# EAGLE library part EP4CE22E22C (library crasbe)
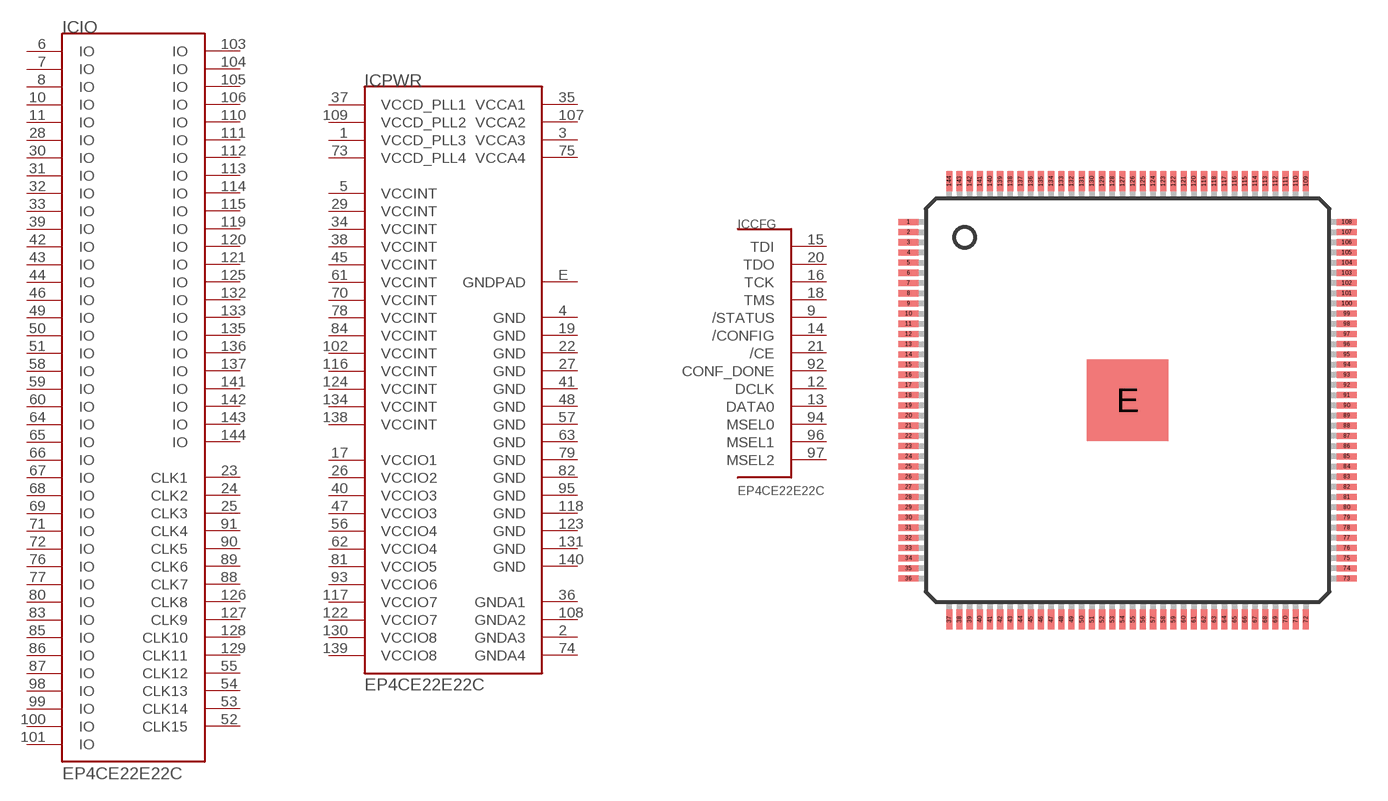
[diagram p20: symbol with the pads of EQFP-144; footprint EQFP-144]

Designator prefix IC; gates CFG=EP4CE22_CFG IO=EP4CE22_IO PWR=EP4CE22_PWR

## EP4CE22E22C  [EQFP-144]
1  PWR:VCCD_PLL3  pwr
2  PWR:GNDA3  pwr
3  PWR:VCCA3  pwr
4  PWR:GND  pwr
5  PWR:VCCINT  pwr
6  IO:IO
7  IO:IO
8  IO:IO
9  CFG:/STATUS
10  IO:IO
11  IO:IO
12  CFG:DCLK  in
13  CFG:DATA0  in
14  CFG:/CONFIG  in
15  CFG:TDI  in
16  CFG:TCK  in
17  PWR:VCCIO1  pwr
18  CFG:TMS  in
19  PWR:GND  pwr
20  CFG:TDO  out
21  CFG:/CE  in
22  PWR:GND  pwr
23  IO:CLK1
24  IO:CLK2
25  IO:CLK3
26  PWR:VCCIO2  pwr
27  PWR:GND  pwr
28  IO:IO
29  PWR:VCCINT  pwr
30  IO:IO
31  IO:IO
32  IO:IO
33  IO:IO
34  PWR:VCCINT  pwr
35  PWR:VCCA1  pwr
36  PWR:GNDA1  pwr
37  PWR:VCCD_PLL1  pwr
38  PWR:VCCINT  pwr
39  IO:IO
40  PWR:VCCIO3  pwr
41  PWR:GND  pwr
42  IO:IO
43  IO:IO
44  IO:IO
45  PWR:VCCINT  pwr
46  IO:IO
47  PWR:VCCIO3  pwr
48  PWR:GND  pwr
49  IO:IO
50  IO:IO
51  IO:IO
52  IO:CLK15
53  IO:CLK14
54  IO:CLK13
55  IO:CLK12
56  PWR:VCCIO4  pwr
57  PWR:GND  pwr
58  IO:IO
59  IO:IO
60  IO:IO
61  PWR:VCCINT  pwr
62  PWR:VCCIO4  pwr
63  PWR:GND  pwr
64  IO:IO
65  IO:IO
66  IO:IO
67  IO:IO
68  IO:IO
69  IO:IO
70  PWR:VCCINT  pwr
71  IO:IO
72  IO:IO
73  PWR:VCCD_PLL4  pwr
74  PWR:GNDA4  pwr
75  PWR:VCCA4  pwr
76  IO:IO
77  IO:IO
78  PWR:VCCINT  pwr
79  PWR:GND  pwr
80  IO:IO
81  PWR:VCCIO5  pwr
82  PWR:GND  pwr
83  IO:IO
84  PWR:VCCINT  pwr
85  IO:IO
86  IO:IO
87  IO:IO
88  IO:CLK7
89  IO:CLK6
90  IO:CLK5
91  IO:CLK4
92  CFG:CONF_DONE
93  PWR:VCCIO6  pwr
94  CFG:MSEL0  in
95  PWR:GND  pwr
96  CFG:MSEL1  in
97  CFG:MSEL2  in
98  IO:IO
99  IO:IO
100  IO:IO
101  IO:IO
102  PWR:VCCINT  pwr
103  IO:IO
104  IO:IO
105  IO:IO
106  IO:IO
107  PWR:VCCA2  pwr
108  PWR:GNDA2  pwr
109  PWR:VCCD_PLL2  pwr
110  IO:IO
111  IO:IO
112  IO:IO
113  IO:IO
114  IO:IO
115  IO:IO
116  PWR:VCCINT  pwr
117  PWR:VCCIO7  pwr
118  PWR:GND  pwr
119  IO:IO
120  IO:IO
121  IO:IO
122  PWR:VCCIO7  pwr
123  PWR:GND  pwr
124  PWR:VCCINT  pwr
125  IO:IO
126  IO:CLK8
127  IO:CLK9
128  IO:CLK10
129  IO:CLK11
130  PWR:VCCIO8  pwr
131  PWR:GND  pwr
132  IO:IO
133  IO:IO
134  PWR:VCCINT  pwr
135  IO:IO
136  IO:IO
137  IO:IO
138  PWR:VCCINT  pwr
139  PWR:VCCIO8  pwr
140  PWR:GND  pwr
141  IO:IO
142  IO:IO
143  IO:IO
144  IO:IO
E  PWR:GNDPAD  pwr

## Footprint EQFP-144 (pad centres in mm)
smd 1 x 0.3: 1 -10.75,8.75; 2 -10.75,8.25; 3 -10.75,7.75; 4 -10.75,7.25; 5 -10.75,6.75; 6 -10.75,6.25; 7 -10.75,5.75; 8 -10.75,5.25; 9 -10.75,4.75; 10 -10.75,4.25; 11 -10.75,3.75; 12 -10.75,3.25; 13 -10.75,2.75; 14 -10.75,2.25; 15 -10.75,1.75; 16 -10.75,1.25; 17 -10.75,0.75; 18 -10.75,0.25; 19 -10.75,-0.25; 20 -10.75,-0.75; 21 -10.75,-1.25; 22 -10.75,-1.75; 23 -10.75,-2.25; 24 -10.75,-2.75; 25 -10.75,-3.25; 26 -10.75,-3.75; 27 -10.75,-4.25; 28 -10.75,-4.75; 29 -10.75,-5.25; 30 -10.75,-5.75; 31 -10.75,-6.25; 32 -10.75,-6.75; 33 -10.75,-7.25; 34 -10.75,-7.75; 35 -10.75,-8.25; 36 -10.75,-8.75; 73 10.75,-8.75; 74 10.75,-8.25; 75 10.75,-7.75; 76 10.75,-7.25; 77 10.75,-6.75; 78 10.75,-6.25; 79 10.75,-5.75; 80 10.75,-5.25; 81 10.75,-4.75; 82 10.75,-4.25; 83 10.75,-3.75; 84 10.75,-3.25; 85 10.75,-2.75; 86 10.75,-2.25; 87 10.75,-1.75; 88 10.75,-1.25; 89 10.75,-0.75; 90 10.75,-0.25; 91 10.75,0.25; 92 10.75,0.75; 93 10.75,1.25; 94 10.75,1.75; 95 10.75,2.25; 96 10.75,2.75; 97 10.75,3.25; 98 10.75,3.75; 99 10.75,4.25; 100 10.75,4.75; 101 10.75,5.25; 102 10.75,5.75; 103 10.75,6.25; 104 10.75,6.75; 105 10.75,7.25; 106 10.75,7.75; 107 10.75,8.25; 108 10.75,8.75
smd 0.3 x 1: 37 -8.75,-10.75; 38 -8.25,-10.75; 39 -7.75,-10.75; 40 -7.25,-10.75; 41 -6.75,-10.75; 42 -6.25,-10.75; 43 -5.75,-10.75; 44 -5.25,-10.75; 45 -4.75,-10.75; 46 -4.25,-10.75; 47 -3.75,-10.75; 48 -3.25,-10.75; 49 -2.75,-10.75; 50 -2.25,-10.75; 51 -1.75,-10.75; 52 -1.25,-10.75; 53 -0.75,-10.75; 54 -0.25,-10.75; 55 0.25,-10.75; 56 0.75,-10.75; 57 1.25,-10.75; 58 1.75,-10.75; 59 2.25,-10.75; 60 2.75,-10.75; 61 3.25,-10.75; 62 3.75,-10.75; 63 4.25,-10.75; 64 4.75,-10.75; 65 5.25,-10.75; 66 5.75,-10.75; 67 6.25,-10.75; 68 6.75,-10.75; 69 7.25,-10.75; 70 7.75,-10.75; 71 8.25,-10.75; 72 8.75,-10.75; 109 8.75,10.75; 110 8.25,10.75; 111 7.75,10.75; 112 7.25,10.75; 113 6.75,10.75; 114 6.25,10.75; 115 5.75,10.75; 116 5.25,10.75; 117 4.75,10.75; 118 4.25,10.75; 119 3.75,10.75; 120 3.25,10.75; 121 2.75,10.75; 122 2.25,10.75; 123 1.75,10.75; 124 1.25,10.75; 125 0.75,10.75; 126 0.25,10.75; 127 -0.25,10.75; 128 -0.75,10.75; 129 -1.25,10.75; 130 -1.75,10.75; 131 -2.25,10.75; 132 -2.75,10.75; 133 -3.25,10.75; 134 -3.75,10.75; 135 -4.25,10.75; 136 -4.75,10.75; 137 -5.25,10.75; 138 -5.75,10.75; 139 -6.25,10.75; 140 -6.75,10.75; 141 -7.25,10.75; 142 -7.75,10.75; 143 -8.25,10.75; 144 -8.75,10.75
smd 4 x 4: E 0,0